# Altium schematic symbol library Bel_Fuse_PTC.SchLib: 2 symbols
Pins are listed as number, name and electrical type; pins without a type are passive.

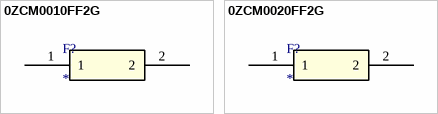
[diagram p0: symbols 0ZCM0010FF2G to 0ZCM0020FF2G]

## 0ZCM0010FF2G
designator F?
PTC RESET FUSE 15V 100MA 0603; Manufacturer 1: Bel; Manufacturer Part Number 1: 0ZCM0010FF2G; Max Current Rating: 40A; Power Dissipation: 500mW; Trip Current: 250mA; Time to Trip: 0.1s; Approvals: UL; Supplier 1: Digi-Key; Stock 1: 318884; Pricing 1: 1=0.16000, 5=0.16000, 10=0.15200, 50=0.13580, 100=0.12640, 250=0.11232, 500=0.09360, 1000=0.08892 (USD); RoHS: Yes; Mount: Surface Mount; Case/Package: 0603; Case Code (Metric): 1608; Case Code (Imperial): 0603; Contact Plating: Tin; Number of Terminals: 2; Min Operating Temperature: -40°C; Max Operating Temperature: 85°C; Package Quantity: 1; Packaging: Tape and Reel; Hold Current: 100mA; Max Voltage Rating (DC): 15V; Lead Free: Lead Free; ComponentLink1URL: https://datasheet.ciiva.com/18550/0zcm-18550601.pdf?src-supplier=Digi-Key; ComponentLink1Description: https://datasheet.ciiva.com/18550/0zcm-18550601.pdf?src-supplier=Digi-Key; ComponentLink2URL: https://datasheet.ciiva.com/18550/0zcm-18550602.pdf?src-supplier=Digi-Key; ComponentLink2Description: https://datasheet.ciiva.com/18550/0zcm-18550602.pdf?src-supplier=Digi-Key; ComponentLink3URL: https://datasheet.ciiva.com/18550/0zcm-18550603.pdf?src-supplier=Digi-Key; ComponentLink3Description: https://datasheet.ciiva.com/18550/0zcm-18550603.pdf?src-supplier=Digi-Key
footprint 0ZCM_603
pins: 1, 2

## 0ZCM0020FF2G
designator F?
PTC RESET FUSE 9V 200MA 0603; Manufacturer 1: Bel; Manufacturer Part Number 1: 0ZCM0020FF2G; Max Current Rating: 40A; Power Dissipation: 500mW; Trip Current: 450mA; Time to Trip: 0.1s; Approvals: UL; Supplier 1: Digi-Key; Stock 1: 9041; Pricing 1: 1=0.16000, 5=0.16000, 10=0.15200, 50=0.13580, 100=0.12640, 250=0.11232, 500=0.09360, 1000=0.08892 (USD); RoHS: Yes; Mount: Surface Mount; Case/Package: 0603; Case Code (Metric): 1608; Case Code (Imperial): 0603; Contact Plating: Tin; Number of Terminals: 2; Min Operating Temperature: -40°C; Max Operating Temperature: 85°C; Package Quantity: 4000; Packaging: Tape and Reel; Hold Current: 200mA; Max Voltage Rating (DC): 9V; Lead Free: Lead Free; ComponentLink1URL: https://datasheet.ciiva.com/18550/0zcm-18550604.pdf?src-supplier=Digi-Key; ComponentLink1Description: https://datasheet.ciiva.com/18550/0zcm-18550604.pdf?src-supplier=Digi-Key; ComponentLink2URL: https://datasheet.ciiva.com/18550/0zcm-18550557.pdf?src-supplier=Digi-Key; ComponentLink2Description: https://datasheet.ciiva.com/18550/0zcm-18550557.pdf?src-supplier=Digi-Key; ComponentLink3URL: https://datasheet.ciiva.com/18550/0zcm-18550558.pdf?src-supplier=Digi-Key; ComponentLink3Description: https://datasheet.ciiva.com/18550/0zcm-18550558.pdf?src-supplier=Digi-Key
footprint 0ZCM_603
pins: 1, 2